# EAGLE library part DB9-* (library stm32_usbserial)
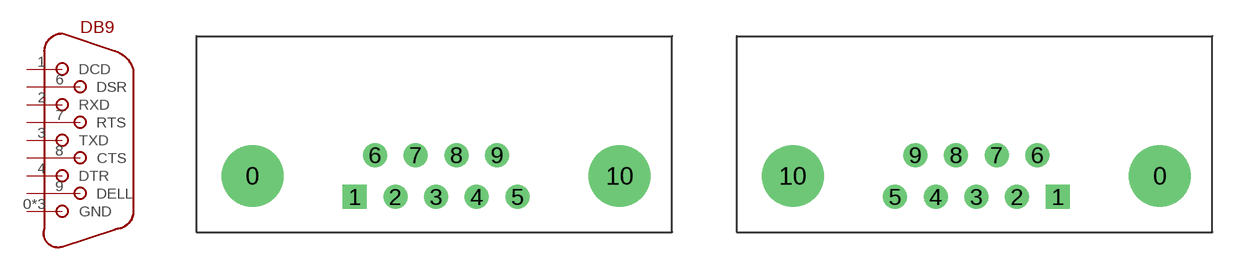
[diagram p1: symbol with the pads of DB9-FMALE; footprints DB9-FMALE, DB9-MALE]

Designator prefix -

## DB9-FMALE'FMALE'  [DB9-FMALE]
0  GND  pwr
1  DCD
2  RXD
3  TXD
4  DTR
5  GND  pwr
6  DSR
7  RTS
8  CTS
9  DELL
10  GND  pwr

## DB9-MALE'MALE'  [DB9-MALE]
Pads as for DB9-FMALE

## Footprint DB9-FMALE (pad centres in mm)
drill 3.2: 0 0,0; 10 25,0
drill 1.09 square: 1 6.96,-1.42
drill 1.09: 2 9.73,-1.42; 3 12.5,-1.42; 4 15.27,-1.42; 5 18.04,-1.42; 6 8.345,1.42; 7 11.115,1.42; 8 13.885,1.42; 9 16.655,1.42

## Footprint DB9-MALE (pad centres in mm)
drill 3.2: 0 25,0; 10 0,0
drill 1.09 square: 1 18.04,-1.42
drill 1.09: 2 15.27,-1.42; 3 12.5,-1.42; 4 9.73,-1.42; 5 6.96,-1.42; 6 16.655,1.42; 7 13.885,1.42; 8 11.115,1.42; 9 8.345,1.42